# Altium footprint library 2015-02-06_16-54-56.PcbLib: 7 footprints
Each footprint in its own frame and in the unit in brackets; x right, y up, seen from the top. Pads: shape width x height; smd on the part's side, far side on the other; paste and mask are expansions set on the pad; w line width, h text height; cw(c..) or ccw(c..) is an arc to the next point about the centre after c.
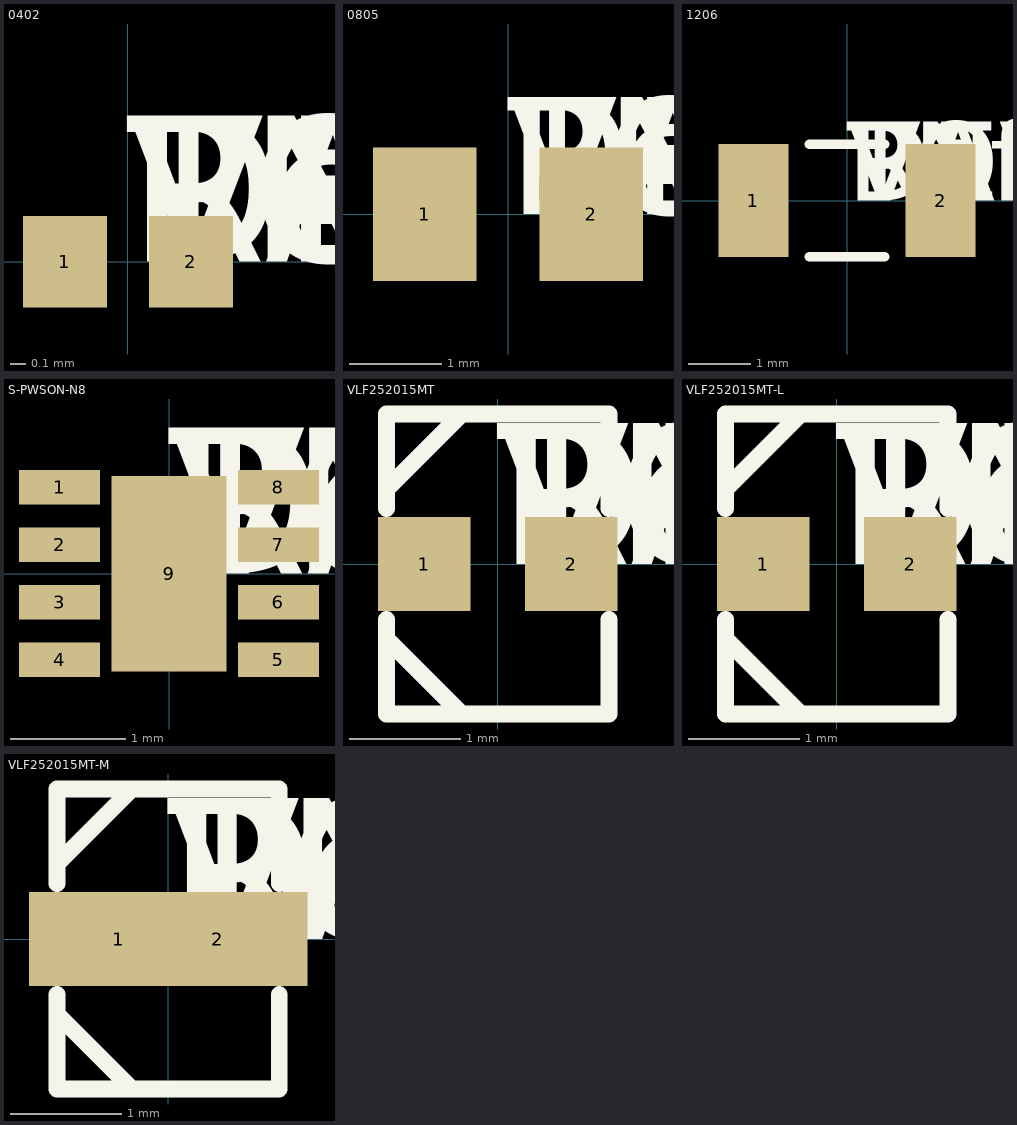
[diagram p0: the footprints below, top view; thin cyan lines are the x and y axes]

## 0402 [mil]
pads (2):
  rect 22x24 smd: 1(-16.5,0) 2(16.5,0)
Top Overlay:
  text "RefDes" at 0,0 h50
  text "DEV" at 0,0 h50
  text "PN" at 0,0 h50
  text "DEV" at 0,0 h50
  text "VAL" at 0,0 h50
  text "TOL" at 0,0 h50

## 0805 [mil]
pads (2):
  rect 44x57 smd: 1(-35.5,0) 2(35.5,0)
Top Overlay:
  text "RefDes" at 0,0 h50
  text "DEV" at 0,0 h50
  text "PN" at 0,0 h50
  text "DEV" at 0,0 h50
  text "VAL" at 0,0 h50
  text "TOL" at 0,0 h50

## 1206 [mil]
pads (2):
  rect 44x71 smd: 1(-59,0) 2(59,0)
Top Overlay:
  lines w6: -23.9,-35.5 23.9,-35.5 ; -23.9,35.5 23.9,35.5
  text "RefDes" at 0,0 h50
  text "DEV" at 0,0 h50
  text "PN" at 0,0 h50
  text "DEV" at 0,0 h50
  text "VAL" at 0,0 h50
  text "TOL" at 0,0 h50

## S-PWSON-N8 [mm]
pads (9):
  rect 0.705x0.3 smd: 1(-0.952,0.75) 2(-0.952,0.25) 3(-0.952,-0.25) 4(-0.952,-0.75) 5(0.952,-0.75) 6(0.952,-0.25) 7(0.952,0.25) 8(0.952,0.75)
  rect 1x1.7 smd paste-0.837: 9(0,0)
Top Overlay:
  text "RefDes" at 0,0 h1.27
  text "DEV" at 0,0 h1.27
  text "PN" at 0,0 h1.27
  text "DEV" at 0,0 h1.27
  text "VAL" at 0,0 h1.27
  text "TOL" at 0,0 h1.27
Top Paste:
  region: 0.5,0.85 -0.5,0.85 -0.5,-0.85 0.5,-0.85

## VLF252015MT [mm]
pads (2):
  rect 0.829x0.85 smd: 1(-0.661,0) 2(0.661,0)
Top Overlay:
  lines w0.152: -1,-0.675 -0.325,-1.35 ; -1,-0.501 -1,-1.35 1,-1.35 1,-0.501 ; -1,0.501 -1,1.35 1,1.35 1,0.501 ; -1,0.675 -0.325,1.35
  text "RefDes" at 0,0 h1.27
  text "DEV" at 0,0 h1.27
  text "PN" at 0,0 h1.27
  text "DEV" at 0,0 h1.27
  text "VAL" at 0,0 h1.27
  text "TOL" at 0,0 h1.27

## VLF252015MT-L [mm]
pads (2):
  rect 0.829x0.85 smd: 1(-0.661,0) 2(0.661,0)
Top Overlay:
  lines w0.152: -1,-0.675 -0.325,-1.35 ; -1,-0.501 -1,-1.35 1,-1.35 1,-0.501 ; -1,0.501 -1,1.35 1,1.35 1,0.501 ; -1,0.675 -0.325,1.35
  text "RefDes" at 0,0 h1.27
  text "DEV" at 0,0 h1.27
  text "PN" at 0,0 h1.27
  text "DEV" at 0,0 h1.27
  text "VAL" at 0,0 h1.27
  text "TOL" at 0,0 h1.27

## VLF252015MT-M [mm]
pads (2):
  rect 1.617x0.85 smd: 1(-0.446,0) 2(0.446,0)
Top Overlay:
  lines w0.152: -1,-0.675 -0.325,-1.35 ; -1,-0.501 -1,-1.35 1,-1.35 1,-0.501 ; -1,0.501 -1,1.35 1,1.35 1,0.501 ; -1,0.675 -0.325,1.35
  text "RefDes" at 0,0 h1.27
  text "DEV" at 0,0 h1.27
  text "PN" at 0,0 h1.27
  text "DEV" at 0,0 h1.27
  text "VAL" at 0,0 h1.27
  text "TOL" at 0,0 h1.27